# EAGLE library part W5300 (library WIZnet)
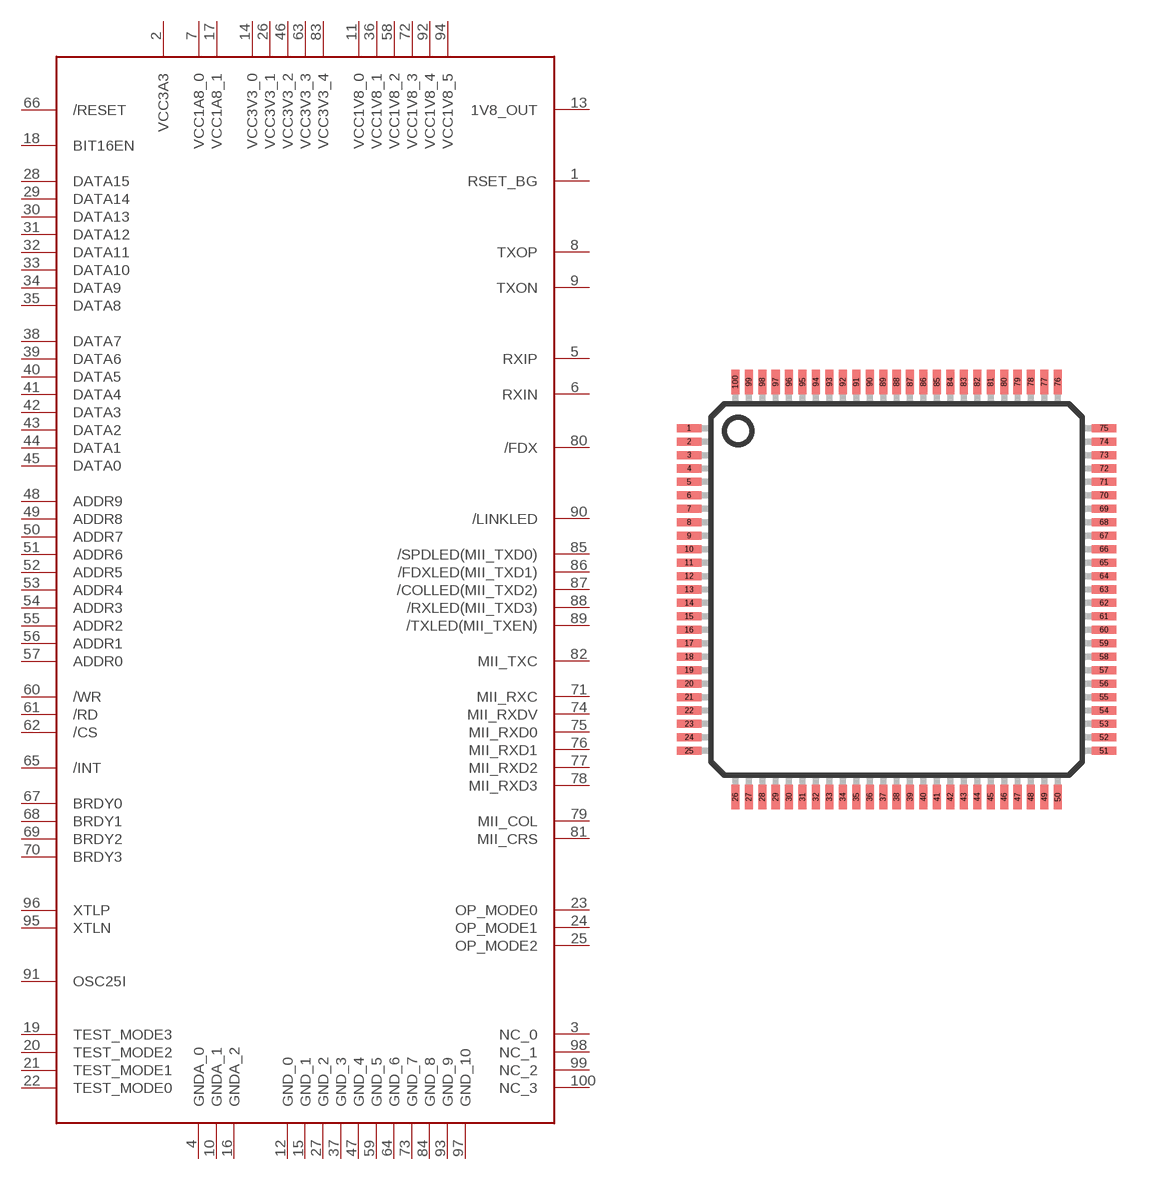
[diagram p4: symbol with the pads of LQFP_100; footprint LQFP_100]

Designator prefix -

## W5300  [LQFP_100]
1  RSET_BG
2  VCC3A3
3  NC_0
4  GNDA_0
5  RXIP
6  RXIN
7  VCC1A8_0
8  TXOP
9  TXON
10  GNDA_1
11  VCC1V8_0
12  GND_0
13  1V8_OUT
14  VCC3V3_0
15  GND_1
16  GNDA_2
17  VCC1A8_1
18  BIT16EN
19  TEST_MODE3
20  TEST_MODE2
21  TEST_MODE1
22  TEST_MODE0
23  OP_MODE0
24  OP_MODE1
25  OP_MODE2
26  VCC3V3_1
27  GND_2
28  DATA15
29  DATA14
30  DATA13
31  DATA12
32  DATA11
33  DATA10
34  DATA9
35  DATA8
36  VCC1V8_1
37  GND_3
38  DATA7
39  DATA6
40  DATA5
41  DATA4
42  DATA3
43  DATA2
44  DATA1
45  DATA0
46  VCC3V3_2
47  GND_4
48  ADDR9
49  ADDR8
50  ADDR7
51  ADDR6
52  ADDR5
53  ADDR4
54  ADDR3
55  ADDR2
56  ADDR1
57  ADDR0
58  VCC1V8_2
59  GND_5
60  /WR
61  /RD
62  /CS
63  VCC3V3_3
64  GND_6
65  /INT
66  /RESET
67  BRDY0
68  BRDY1
69  BRDY2
70  BRDY3
71  MII_RXC
72  VCC1V8_3
73  GND_7
74  MII_RXDV
75  MII_RXD0
76  MII_RXD1
77  MII_RXD2
78  MII_RXD3
79  MII_COL
80  /FDX
81  MII_CRS
82  MII_TXC
83  VCC3V3_4
84  GND_8
85  /SPDLED(MII_TXD0)
86  /FDXLED(MII_TXD1)
87  /COLLED(MII_TXD2)
88  /RXLED(MII_TXD3)
89  /TXLED(MII_TXEN)
90  /LINKLED
91  OSC25I
92  VCC1V8_4
93  GND_9
94  VCC1V8_5
95  XTLN
96  XTLP
97  GND_10
98  NC_1
99  NC_2
100  NC_3

## Footprint LQFP_100 (pad centres in mm)
smd 0.9 x 0.3: 1 -7.72,6; 2 -7.72,5.5; 3 -7.72,5; 4 -7.72,4.5; 5 -7.72,4; 6 -7.72,3.5; 7 -7.72,3; 8 -7.72,2.5; 9 -7.72,2; 10 -7.72,1.5; 11 -7.72,1; 12 -7.72,0.5; 13 -7.72,0; 14 -7.72,-0.5; 15 -7.72,-1; 16 -7.72,-1.5; 17 -7.72,-2; 18 -7.72,-2.5; 19 -7.72,-3; 20 -7.72,-3.5; 21 -7.72,-4; 22 -7.72,-4.5; 23 -7.72,-5; 24 -7.72,-5.5; 25 -7.72,-6; 51 7.72,-6; 52 7.72,-5.5; 53 7.72,-5; 54 7.72,-4.5; 55 7.72,-4; 56 7.72,-3.5; 57 7.72,-3; 58 7.72,-2.5; 59 7.72,-2; 60 7.72,-1.5; 61 7.72,-1; 62 7.72,-0.5; 63 7.72,0; 64 7.72,0.5; 65 7.72,1; 66 7.72,1.5; 67 7.72,2; 68 7.72,2.5; 69 7.72,3; 70 7.72,3.5; 71 7.72,4; 72 7.72,4.5; 73 7.72,5; 74 7.72,5.5; 75 7.72,6
smd 0.3 x 0.9: 26 -6,-7.72; 27 -5.5,-7.72; 28 -5,-7.72; 29 -4.5,-7.72; 30 -4,-7.72; 31 -3.5,-7.72; 32 -3,-7.72; 33 -2.5,-7.72; 34 -2,-7.72; 35 -1.5,-7.72; 36 -1,-7.72; 37 -0.5,-7.72; 38 0,-7.72; 39 0.5,-7.72; 40 1,-7.72; 41 1.5,-7.72; 42 2,-7.72; 43 2.5,-7.72; 44 3,-7.72; 45 3.5,-7.72; 46 4,-7.72; 47 4.5,-7.72; 48 5,-7.72; 49 5.5,-7.72; 50 6,-7.72; 76 6,7.72; 77 5.5,7.72; 78 5,7.72; 79 4.5,7.72; 80 4,7.72; 81 3.5,7.72; 82 3,7.72; 83 2.5,7.72; 84 2,7.72; 85 1.5,7.72; 86 1,7.72; 87 0.5,7.72; 88 0,7.72; 89 -0.5,7.72; 90 -1,7.72; 91 -1.5,7.72; 92 -2,7.72; 93 -2.5,7.72; 94 -3,7.72; 95 -3.5,7.72; 96 -4,7.72; 97 -4.5,7.72; 98 -5,7.72; 99 -5.5,7.72; 100 -6,7.72